# Altium schematic symbol library Blue Pill.SchLib: 1 symbol
Pins are listed as number, name and electrical type; pins without a type are passive.

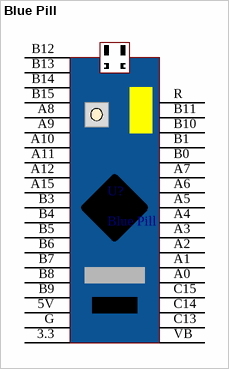
[diagram p0: symbol Blue Pill]

## Blue Pill
designator U?
footprint Blue Pill
pins: 3.3 20, 5V 18, A0 25, A1 26, A2 27, A3 28, A4 29, A5 30, A6 31, A7 32, A8, A9, A10 7, A11 8, A12 9, A15 10, B0 33, B1 34, B3 11, B4 12, B5 13, B6 14, B7 15, B8 16, B9 17, B10 35, B11 36, B12, B13, B14, B15, C13 22, C14 23, C15 24, G 19, R 37, VB 21